# Altium footprint library AMPHENOL_RJE091884511C.PcbLib: 1 footprints
Each footprint in its own frame and in the unit in brackets; x right, y up, seen from the top. Pads: shape width x height; smd on the part's side, far side on the other; paste and mask are expansions set on the pad; w line width, h text height; cw(c..) or ccw(c..) is an arc to the next point about the centre after c.
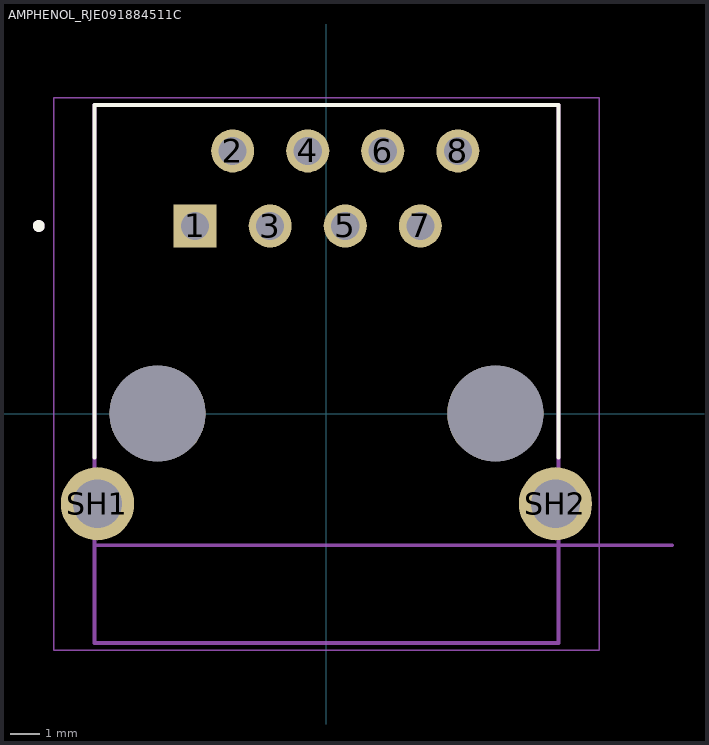
[diagram p0: the footprint, top view; thin cyan lines are the x and y axes]

## AMPHENOL_RJE091884511C [mm]
height 13.2
pads (12):
  rect 1.458x1.458 / inner round 1.458 / far side rect 1.458x1.458 hole 0.95: 1(-4.445,6.35)
  round 1.458 hole 0.95: 2(-3.175,8.89) 3(-1.905,6.35) 4(-0.635,8.89) 5(0.635,6.35) 6(1.905,8.89) 7(3.175,6.35) 8(4.445,8.89)
  round 2.475 hole 1.65: SH1(-7.75,-3.05) SH2(7.75,-3.05)
  round 3.25 hole 3.25 unplated: ""(-5.715,0) ""(5.715,0)
Top Overlay:
  circle w0.2: c-9.737,6.35 r0.1
  lines w0.127: -7.85,-1.492 -7.85,10.44 7.85,10.44 7.85,-1.492
Mechanical 13:
  circle w0.2: c-9.737,6.35 r0.1
  lines w0.127: 11.7,-4.46 -7.85,-4.46 ; -7.85,-4.46 -7.85,-7.76 7.85,-7.76 7.85,10.44 -7.85,10.44 -7.85,-4.46
  text "PCB Edge" at 9.498,-4.091 h0.81
Mechanical 15:
  lines w0.05: -9.237,-8.01 -9.237,10.69 9.237,10.69 9.237,-8.01 -9.237,-8.01
3D body "step_temp.STEP": height 16.4, standoff -0.3, extent -7.88,-0.3 7.88,17.9